# Altium schematic symbol library Connector.SchLib: 1 symbol
Pins are listed as number, name and electrical type; pins without a type are passive.

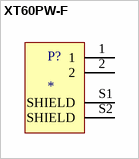
[diagram p0: symbol XT60PW-F]

## XT60PW-F
designator P?
Female Socket DC Supply; Manufacturer: Amass
footprint XT60PW-F
pins: 1, 2, S1 SHIELD, S2 SHIELD